# Altium schematic symbol library 5019530407.Schlib: 1 symbol
Pins are listed as number, name and electrical type; pins without a type are passive.

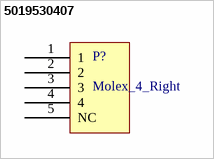
[diagram p0: symbol 5019530407]

## 5019530407
designator P?, comment Molex_4_Right
4 Pin Right Molex PCB Header
pins: 1, 2, 3, 4, 5 NC